# Altium schematic symbol library BatteryIot-V3.SCHLIB: 40 symbols
Pins are listed as number, name and electrical type; pins without a type are passive.

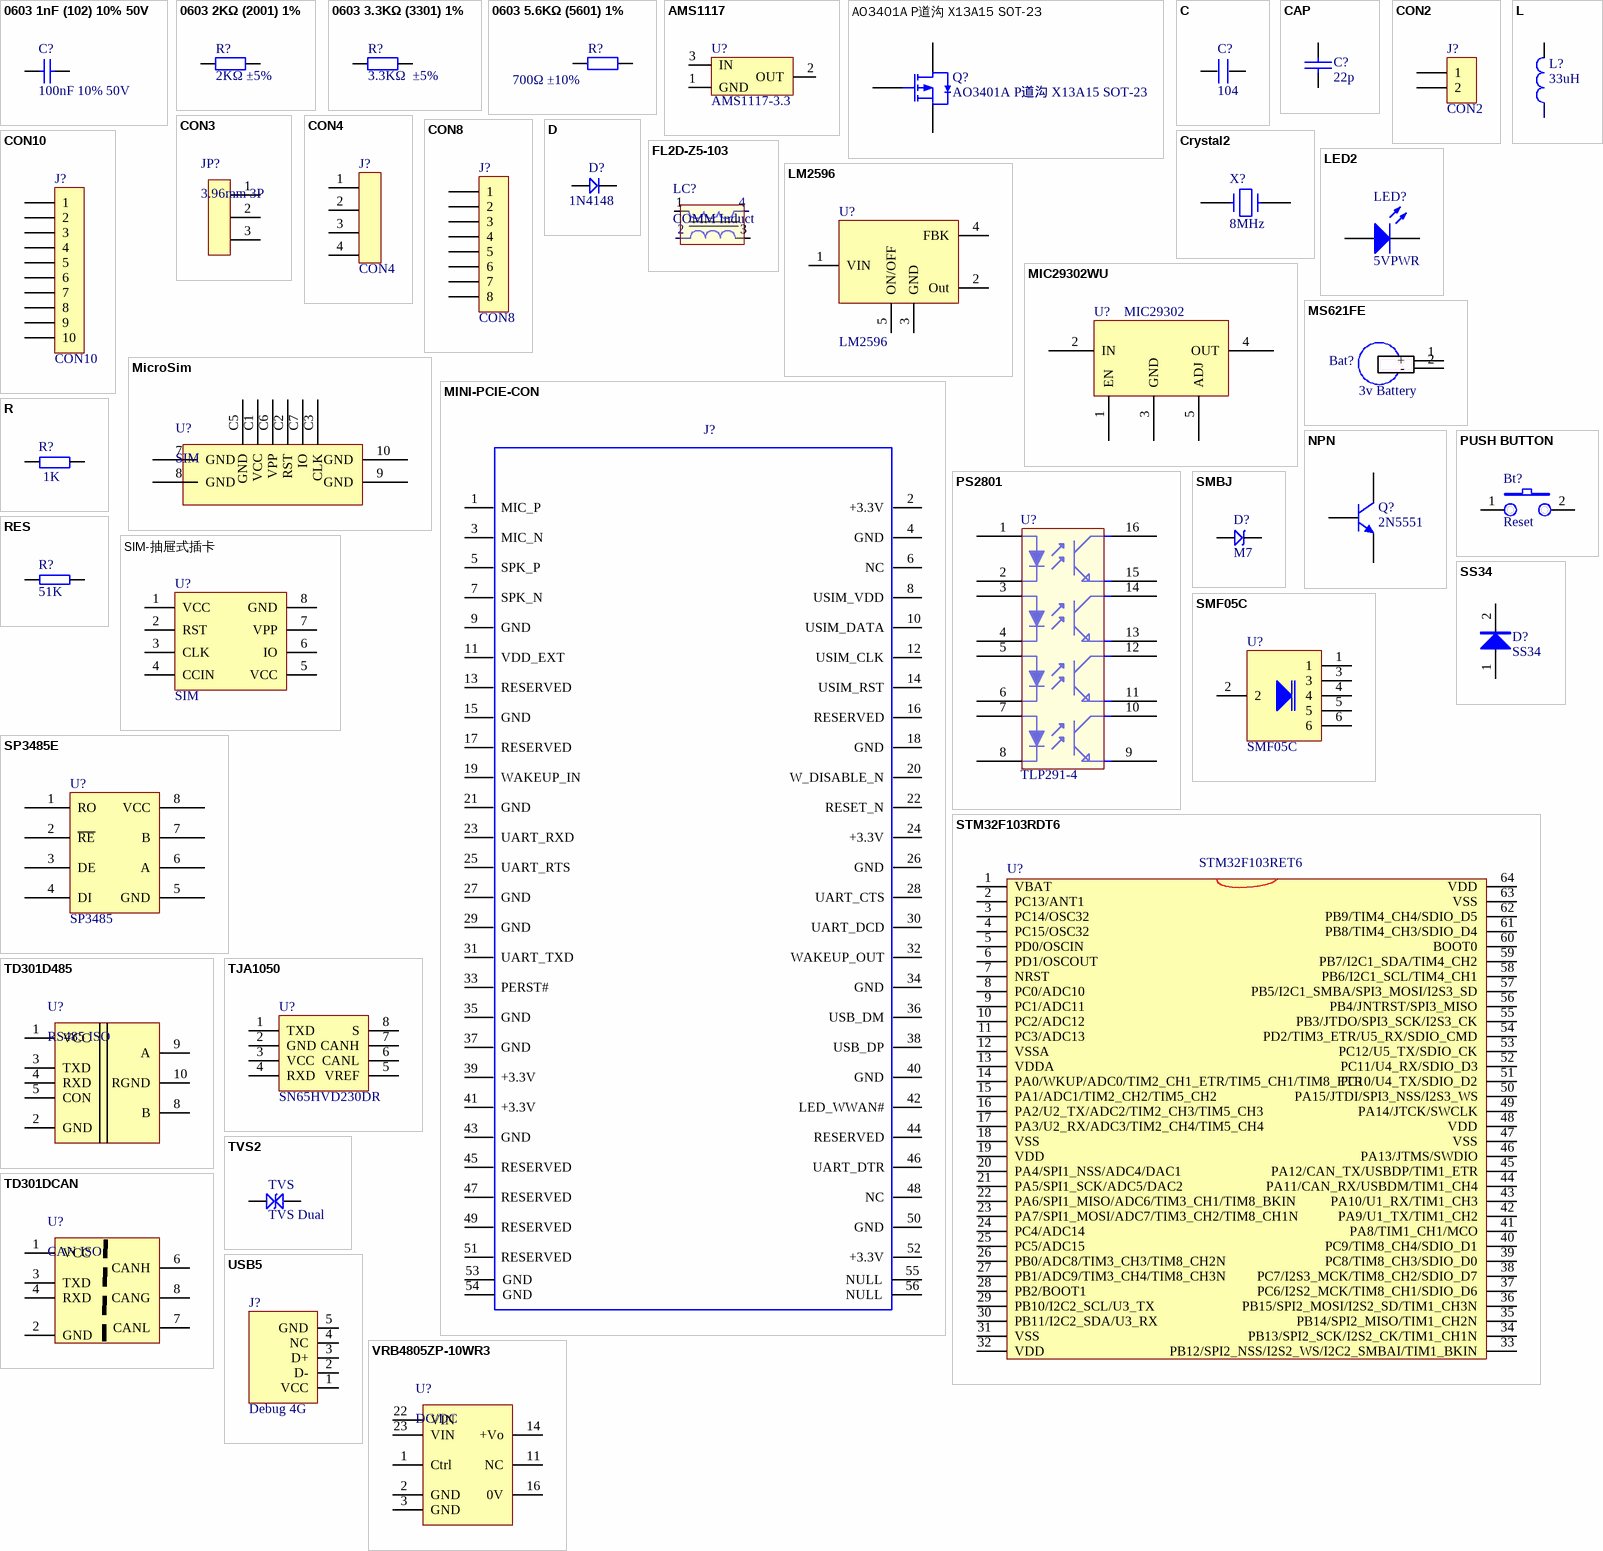
[diagram p0: symbols 0603 1nF (102) 10% 50V to VRB4805ZP-10WR3]

## 0603 1nF (102) 10% 50V
designator C?, comment 100nF 10% 50V
贴片电容; ComponentLink1Description: 供应商链接; ComponentLink1URL: http://www.szlcsc.com/product/details_1940.html; Package: 0603; Supplier: LC; SuppliersPartNumber: C1588
footprint 0603_C
pins: 1, 2

## 0603 2KΩ (2001) 1%
designator R?, comment 2KΩ ±5%
贴片电阻; ComponentLink1Description: 供应商链接; ComponentLink1URL: http://www.szlcsc.com/product/details_23702.html; Package: 0603; Supplier: LC; SuppliersPartNumber: C22975
footprint 0603_R
pins: 1, 2

## 0603 3.3KΩ (3301) 1%
designator R?, comment 3.3KΩ  ±5%
贴片电阻; ComponentLink1Description: 供应商链接; ComponentLink1URL: http://www.szlcsc.com/product/details_23705.html; Package: 0603; Supplier: LC; SuppliersPartNumber: C22978
footprint 0603_R
pins: 1, 2

## 0603 5.6KΩ (5601) 1%
designator R?, comment 700Ω ±10%
贴片电阻; ComponentLink1Description: 供应商链接; ComponentLink1URL: http://www.szlcsc.com/product/details_23916.html; Package: 0603; Supplier: LC; SuppliersPartNumber: C23189
footprint 0603_R
pins: 1, 2

## AMS1117
designator U?, comment AMS1117-3.3
footprint SOT-223
pins: 1 GND, 2 OUT, 3 IN

## AO3401A P道沟 X13A15 SOT-23
designator Q?
MOS(场效应管); ComponentLink1Description: 供应商链接; ComponentLink1URL: http://www.szlcsc.com/product/details_15801.html; Package: SOT-23; Supplier: LC; SuppliersPartNumber: C15127
footprint SOT-23
pins: 1 G, 2 S, 3 D

## C
designator C?, comment 104
footprint 0603_C
pins: 1, 2

## CAP
designator C?, comment 22p
Capacitor
footprint 0603_C
pins: 1, 2

## CON2
designator J?
footprint CON5.08-2P
pins: 1, 2

## CON3
designator JP?, comment 3.96mm 3P
pins: 1, 2, 3

## CON4
designator J?
footprint CON4(2.54)
pins: 1, 2, 3, 4

## CON8
designator J?
footprint CON8-3.96mm
footprint SIP8
pins: 1, 2, 3, 4, 5, 6, 7, 8

## CON10
designator J?
footprint XH2.54-SMD-5*2P
footprint sip10
pins: 1, 2, 3, 4, 5, 6, 7, 8, 9, 10

## Crystal2
designator X?, comment 8MHz
footprint Crystal_SMD
footprint 无源晶振(8M)
pins: 1, 2

## D
designator D?, comment 1N4148
footprint SOD-323
pins: 1, 2

## FL2D-Z5-103
designator LC?, comment COMM Induct
pins: 1, 2, 3, 4

## L
designator L?, comment 33uH
footprint CD105-33uH 2A
pins: 1, 2

## LED2
designator LED?, comment 5VPWR
Typical RED, GREEN, YELLOW, AMBER GaAs LED; Published: 8-Jun-2000; LatestRevisionDate: 17-Jul-2002; LatestRevisionNote: Re-released for DXP Platform.; PackageDocument: Feb-2002; PackageReference: 3.2X1.6X1.1; Publisher: Altium Limited
footprint SMDLED
simulation model LED2 (Diode)
pins: 1 A, 2 K

## LM2596
designator U?
footprint TO-263-5-NEW
pins: 1 VIN, 2 Out, 3 GND, 4 FBK, 5 ON/OFF

## MIC29302WU
designator U?, comment MIC29302
footprint TO-263-5-NEW
footprint TO-263-5-NEW
pins: 1 EN, 2 IN, 3 GND, 4 OUT, 5 ADJ

## MicroSim
designator U?, comment SIM
6P自弹MICRO SIM卡座
pins: 7 GND, 8 GND, 9 GND, 10 GND, C1 VCC, C2 RST, C3 CLK, C5 GND, C6 VPP, C7 IO

## MINI-PCIE-CON
designator J?  (value not drawn)
Part Description: Mini PCIe; Value: Latch for Mini PCIe  4.0H 0.8MM pitch 52 circuit with cover lead-free; PCB DECAL: MINI-PCIE-CON
footprint MINI-PCIE-CON
footprint EC20_MINIPCI
pins: 1 MIC_P, 2 +3.3V, 3 MIC_N, 4 GND, 5 SPK_P, 6 NC, 7 SPK_N, 8 USIM_VDD, 9 GND, 10 USIM_DATA, 11 VDD_EXT, 12 USIM_CLK, 13 RESERVED, 14 USIM_RST, 15 GND, 16 RESERVED, 17 RESERVED, 18 GND, 19 WAKEUP_IN, 20 W_DISABLE_N, 21 GND, 22 RESET_N, 23 UART_RXD, 24 +3.3V, 25 UART_RTS, 26 GND, 27 GND, 28 UART_CTS, 29 GND, 30 UART_DCD, 31 UART_TXD, 32 WAKEUP_OUT, 33 PERST#, 34 GND, 35 GND, 36 USB_DM, 37 GND, 38 USB_DP, 39 +3.3V, 40 GND, 41 +3.3V, 42 LED_WWAN#, 43 GND, 44 RESERVED, 45 RESERVED, 46 UART_DTR, 47 RESERVED, 48 NC, 49 RESERVED, 50 GND, 51 RESERVED, 52 +3.3V, 53 GND, 54 GND, 55 GND (power) hidden to GND, 55 NULL, 56 GND (power) hidden to GND, 56 NULL

## MS621FE
designator Bat?, comment 3v Battery
footprint CR1220
footprint BATM
pins: 1 +, 2 -

## NPN
designator Q?, comment 2N5551
footprint SOT-23
pins: 1, 2, 3

## PS2801
designator U?, comment TLP291-4
东芝四通道光耦 SOP16
footprint SOP16_M
pins: 1 INPUT-A, 2 INPUT-K, 3 EMITTER, 4 COLLECTOR (oc), 5, 6, 7, 8, 9, 10, 11, 12, 13, 14, 15, 16

## PUSH BUTTON
designator Bt?, comment Reset
footprint 3*6*2.5贴片 微动开关
footprint 3*6*2.5贴片 微动开关
pins: 1, 2

## R
designator R?, comment 1K
footprint 0603_R
pins: 1, 2

## RES
designator R?, comment 51K
footprint 0603_R
pins: 1, 2

## SIM-抽屉式插卡
designator U?, comment SIM
footprint SIM_BIG_POPUP
pins: 1 VCC, 2 RST, 3 CLK, 4 CCIN, 5 VCC, 6 IO, 7 VPP, 8 GND

## SMBJ
designator D?, comment M7
TVS
footprint SMBJ (3.9*5.6)
pins: 1, 2

## SMF05C
designator U?
footprint SOT363
footprint SOT363
pins: 1, 2, 3, 4, 5, 6

## SP3485E
designator U?, comment SP3485
footprint SOP8
pins: 1 RO, 2 ~{RE}, 3 DE, 4 DI, 5 GND, 6 A, 7 B, 8 VCC

## SS34
designator D?
footprint SMB(DO-214AA)_S1
pins: 1, 2

## STM32F103RDT6
designator U?, comment STM32F103RET6
footprint LQFP64
footprint LQFP64
pins: 1 VBAT, 2 PC13/ANT1, 3 PC14/OSC32, 4 PC15/OSC32, 5 PD0/OSCIN, 6 PD1/OSCOUT, 7 NRST, 8 PC0/ADC10, 9 PC1/ADC11, 10 PC2/ADC12, 11 PC3/ADC13, 12 VSSA, 13 VDDA, 14 PA0/WKUP/ADC0/TIM2_CH1_ETR/TIM5_CH1/TIM8_ETR, 15 PA1/ADC1/TIM2_CH2/TIM5_CH2, 16 PA2/U2_TX/ADC2/TIM2_CH3/TIM5_CH3, 17 PA3/U2_RX/ADC3/TIM2_CH4/TIM5_CH4, 18 VSS, 19 VDD, 20 PA4/SPI1_NSS/ADC4/DAC1, 21 PA5/SPI1_SCK/ADC5/DAC2, 22 PA6/SPI1_MISO/ADC6/TIM3_CH1/TIM8_BKIN, 23 PA7/SPI1_MOSI/ADC7/TIM3_CH2/TIM8_CH1N, 24 PC4/ADC14, 25 PC5/ADC15, 26 PB0/ADC8/TIM3_CH3/TIM8_CH2N, 27 PB1/ADC9/TIM3_CH4/TIM8_CH3N, 28 PB2/BOOT1, 29 PB10/I2C2_SCL/U3_TX, 30 PB11/I2C2_SDA/U3_RX, 31 VSS, 32 VDD, 33 PB12/SPI2_NSS/I2S2_WS/I2C2_SMBAI/TIM1_BKIN, 34 PB13/SPI2_SCK/I2S2_CK/TIM1_CH1N, 35 PB14/SPI2_MISO/TIM1_CH2N, 36 PB15/SPI2_MOSI/I2S2_SD/TIM1_CH3N, 37 PC6/I2S2_MCK/TIM8_CH1/SDIO_D6, 38 PC7/I2S3_MCK/TIM8_CH2/SDIO_D7, 39 PC8/TIM8_CH3/SDIO_D0, 40 PC9/TIM8_CH4/SDIO_D1, 41 PA8/TIM1_CH1/MCO, 42 PA9/U1_TX/TIM1_CH2, 43 PA10/U1_RX/TIM1_CH3, 44 PA11/CAN_RX/USBDM/TIM1_CH4, 45 PA12/CAN_TX/USBDP/TIM1_ETR, 46 PA13/JTMS/SWDIO, 47 VSS, 48 VDD, 49 PA14/JTCK/SWCLK, 50 PA15/JTDI/SPI3_NSS/I2S3_WS, 51 PC10/U4_TX/SDIO_D2, 52 PC11/U4_RX/SDIO_D3, 53 PC12/U5_TX/SDIO_CK, 54 PD2/TIM3_ETR/U5_RX/SDIO_CMD, 55 PB3/JTDO/SPI3_SCK/I2S3_CK, 56 PB4/JNTRST/SPI3_MISO, 57 PB5/I2C1_SMBA/SPI3_MOSI/I2S3_SD, 58 PB6/I2C1_SCL/TIM4_CH1, 59 PB7/I2C1_SDA/TIM4_CH2, 60 BOOT0, 61 PB8/TIM4_CH3/SDIO_D4, 62 PB9/TIM4_CH4/SDIO_D5, 63 VSS, 64 VDD

## TD301D485
designator U?, comment RS485 ISO
pins: 1 VCC, 2 GND, 3 TXD, 4 RXD, 5 CON, 8 B, 9 A, 10 RGND

## TD301DCAN
designator U?, comment CAN ISO
pins: 1 VCC, 2 GND, 3 TXD, 4 RXD, 6 CANH, 7 CANL, 8 CANG

## TJA1050
designator U?, comment SN65HVD230DR
footprint SO-8
pins: 1 TXD, 2 GND, 3 VCC, 4 RXD, 5 VREF, 6 CANL, 7 CANH, 8 S

## TVS2
designator TVS, comment TVS Dual
pins: 1, 2

## USB5
designator J?, comment Debug 4G
footprint USB_MINI_NEW
pins: 1 VCC, 2 D-, 3 D+, 4 NC, 5 GND

## VRB4805ZP-10WR3
designator U?, comment DC/DC
pins: 1 Ctrl, 2 GND, 3 GND, 11 NC, 14 +Vo, 16 0V, 22 VIN, 23 VIN